# Altium footprint library adafruit.PCBLIB: 643 footprints (part 32 of 41)
Each footprint in its own frame and in the unit in brackets; x right, y up, seen from the top. Pads: shape width x height; smd on the part's side, far side on the other; paste and mask are expansions set on the pad; w line width, h text height; cw(c..) or ccw(c..) is an arc to the next point about the centre after c.
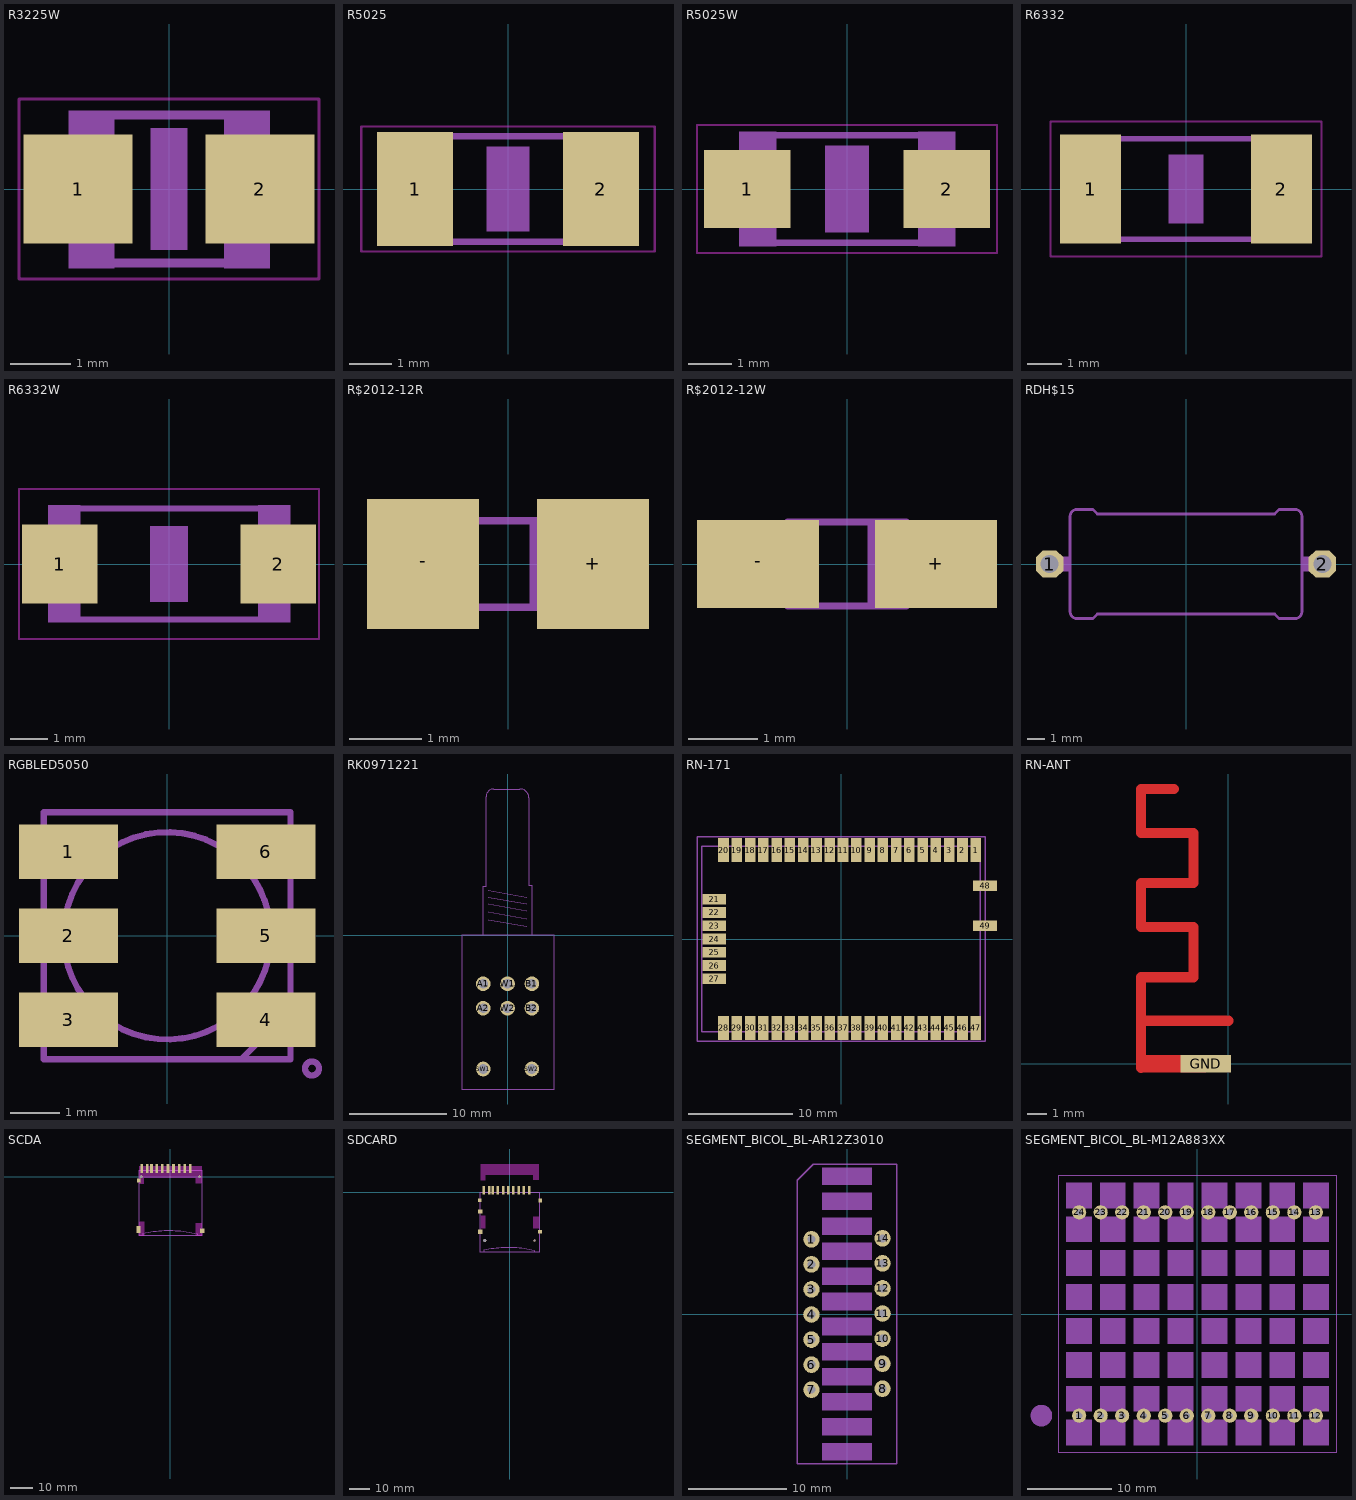
[diagram p31: the footprints below, top view; thin cyan lines are the x and y axes]

## R3225W [mil]
pads (2):
  rect 70.87x70.87 smd: 1(-59.02,0) 2(59.02,0)
Top keep-out:
  lines w2: -97.36,-58.39 97.36,-58.39 97.36,58.39 -97.36,58.39 -97.36,-58.39
tDocu:
  region: -65,-51.5 -65,50.86 -35.47,50.86 -35.47,-51.5
  region: 36,-51.5 36,50.86 65.53,50.86 65.53,-51.5
tPlace:
  lines w6: -35.94,-47.99 36.97,-47.99 ; -35.94,47.99 36.97,47.99
tGlue:
  region: -11.81,-39.37 -11.81,39.37 11.81,39.37 11.81,-39.37

## R5025 [mil]
pads (2):
  rect 70.87x106.3 smd: 1(-86.61,0) 2(86.61,0)
Top keep-out:
  lines w2: -136.73,-58.39 136.73,-58.39 136.73,58.39 -136.73,58.39 -136.73,-58.39
tDocu:
  region: -98,-52 -98,52.33 -64.54,52.33 -64.54,-52
  region: 65,-52 65,52.33 98.46,52.33 98.46,-52
  lines w6: -65.43,49.02 65.43,49.02 ; -64.45,-49.02 66.42,-49.02
tPlace:
  lines w6: -35.43,49.02 35.43,49.02 ; -34.45,-49.02 36.42,-49.02
tGlue:
  region: -19.69,-39.37 -19.69,39.37 19.69,39.37 19.69,-39.37

## R5025W [mm]
pads (2):
  rect 2x1.8 smd: 1(-2.311,0) 2(2.311,0)
Top keep-out:
  lines w0.051: -3.473,-1.483 3.473,-1.483 3.473,1.483 -3.473,1.483 -3.473,-1.483
tDocu:
  region: -2.489,-1.321 -2.489,1.329 -1.639,1.329 -1.639,-1.321
  region: 1.651,-1.321 1.651,1.329 2.501,1.329 2.501,-1.321
tPlace:
  lines w0.152: -1.662,1.245 1.662,1.245 ; -1.637,-1.245 1.687,-1.245
tGlue:
  region: -0.5,-1 -0.5,1 0.5,1 0.5,-1

## R6332 [mil]
pads (2):
  rect 70.87x125.98 smd: 1(-110.24,0) 2(110.24,0)
Top keep-out:
  lines w2: -156.42,-78.07 156.42,-78.07 156.42,78.07 -156.42,78.07 -156.42,-78.07
tDocu:
  region: -126,-61 -126,61.05 -92.54,61.05 -92.54,-61
  region: 93,-61 93,61.05 126.46,61.05 126.46,-61
  lines w6: -92.99,-57.99 93.98,-57.99 ; -92.99,57.99 93.98,57.99
tPlace:
  lines w6: -57.99,-57.99 58.98,-57.99 ; -57.99,57.99 58.98,57.99
tGlue:
  region: -19.69,-39.37 -19.69,39.37 19.69,39.37 19.69,-39.37

## R6332W [mm]
pads (2):
  rect 2x2.1 smd: 1(-2.896,0) 2(2.896,0)
Top keep-out:
  lines w0.051: -3.973,-1.983 3.973,-1.983 3.973,1.983 -3.973,1.983 -3.973,-1.983
tDocu:
  region: -3.2,-1.549 -3.2,1.551 -2.351,1.551 -2.351,-1.549
  region: 2.362,-1.549 2.362,1.551 3.212,1.551 3.212,-1.549
tPlace:
  lines w0.152: -2.362,-1.473 2.387,-1.473 ; -2.362,1.473 2.387,1.473
tGlue:
  region: -0.5,-1 -0.5,1 0.5,1 0.5,-1

## R$2012-12R [mm]
pads (2):
  rect 1.55x1.8 smd: +(1.175,0) -(-1.175,0)
tDocu:
  region: -1,-0.45 -1,0.45 -0.875,0.45 -0.875,-0.45
  region: 0.875,-0.45 0.875,0.45 1,0.45 1,-0.45
  region: 0.3,-0.625 0.3,0.625 0.5,0.625 0.5,-0.625
  lines w0.102: -0.85,-0.6 0.85,-0.6 0.85,0.6 -0.85,0.6 -0.85,-0.6

## R$2012-12W [mil]
pads (2):
  rect 68.9x49.61 smd: +(50.2,0) -(-50.2,0)
tDocu:
  region: -39.37,-17.72 -39.37,17.72 -34.45,17.72 -34.45,-17.72
  region: 34.45,-17.72 34.45,17.72 39.37,17.72 39.37,-17.72
  region: 11.81,-24.61 11.81,24.61 19.69,24.61 19.69,-24.61
  lines w4: -33.46,-23.62 33.46,-23.62 33.46,23.62 -33.46,23.62 -33.46,-23.62

## RDH$15 [mil]
pads (2):
  oct 60x60 / inner round 55.43 / far side oct 60x60 hole 40: 1(-300,0) 2(300,0)
tDocu:
  region: -266,-16 -266,16 -254,16 -254,-16
  region: 254,-16 254,16 266,16 266,-16
  lines w6: -255,-40 -255,40 ; 255,-40 255,40
  lines w32: -300,0 -270,0 ; 270,0 300,0
  text "RDH" at 180,-68 h77.5
tPlace:
  lines w6: -255,-40 -255,-105 ccw(c-240,-105) -240,-120 -205,-120 -195,-110 195,-110 205,-120 240,-120 ccw(c240,-105) 255,-105 255,-40 ; -255,40 -255,105 cw(c-240,105) -240,120 -205,120 -195,110 195,110 205,120 240,120 cw(c240,105) 255,105 255,40

## RGBLED5050 [mm]
pads (6):
  rect 2x1.1 smd: 1(-2,1.7) 2(-2,0) 3(-2,-1.7) 4(2,-1.7) 5(2,0) 6(2,1.7)
tPlace:
  circle w0.127: c2.934,-2.688 r0.141
  circle w0.127: c0,0 r2.1
  lines w0.127: 1.5,-2.5 2.5,-2.5 2.5,-1.5 ; 1.5,-2.5 -2.5,-2.5 -2.5,2.5 2.5,2.5 2.5,-1.5 ; 1.5,-2.5 2.5,-1.5

## RK0971221 [mm]
pads (8):
  round 1.508 hole 1: A1(-2.5,-5) A2(-2.5,-7.5) B1(2.5,-5) B2(2.5,-7.5) SW1(-2.5,-13.75) SW2(2.5,-13.75) W1(0,-5) W2(0,-7.5)
tPlace:
  lines w0.127: -2,1.6 2,0.9 ; -2,2.4 2,1.7 ; -2,3.2 2,2.5 ; -2,3.9 2,3.2 ; -2,4.6 2,3.9 ; -2.5,0 2.5,0 ; -2.5,0 -4.7,0 -4.7,-15.8 4.8,-15.8 4.8,0 2.5,0 ; -2.5,0 -2.5,5 -2.2,5 -2.2,14.219 cw(c-1.419,14.219) -1.419,15 1.278,15 cw(c1.278,14.078) 2.2,14.078 2.2,5.1 2.5,5.1 2.5,0

## RN-171 [mil]
pads (49):
  rect 40x90 smd: 1(507.5,335) 2(457.5,335) 3(407.5,335) 4(357.5,335) 5(307.5,335) 6(257.5,335) 7(207.5,335) 8(157.5,335) 9(107.5,335) 10(57.5,335) 11(7.5,335) 12(-42.5,335) 13(-92.5,335) 14(-142.5,335) 15(-192.5,335) 16(-242.5,335) 17(-292.5,335) 18(-342.5,335) 19(-392.5,335) 20(-442.5,335) 28(-442.5,-335) 29(-392.5,-335) 30(-342.5,-335) 31(-292.5,-335) 32(-242.5,-335) 33(-192.5,-335) 34(-142.5,-335) 35(-92.5,-335) 36(-42.5,-335) 37(7.5,-335) 38(57.5,-335) 39(107.5,-335) 40(157.5,-335) 41(207.5,-335) 42(257.5,-335) 43(307.5,-335) 44(357.5,-335) 45(407.5,-335) 46(457.5,-335) 47(507.5,-335)
  rect 90x40 smd: 21(-477.5,150) 22(-477.5,100) 23(-477.5,50) 24(-477.5,0) 25(-477.5,-50) 26(-477.5,-100) 27(-477.5,-150) 48(542.5,200) 49(542.5,50)
tPlace:
  lines w5: -542.5,-385 542.5,-385 542.5,385 -542.5,385 -542.5,-385 ; -525,-350 525,-350 525,350 -525,350 -525,-350

## RN-ANT [mil]
pads (2):
  rect 1x1 smd paste+0 mask+0: FEED(0,85)
  rect 100x35 smd paste+0 mask+0: GND(-45,0)
Top:
  lines w20: -173,-8 -173,85 ; -108,543 -173,543 -173,456 -69,456 -69,357 -173,357 -173,270 -69,270 -69,171 -173,171 -173,85 ; 0,85 -173,85
  lines w35: -165,0 -50,0

## SCDA [mm]
pads (15):
  rect 1.2x4 smd: 1(6.4,3.7) 2(3.9,3.7) 3(1.4,3.7) 4(-1.1,3.7) 5(-3.6,3.7) 6(-6.1,3.7) 7(-8.4,3.7) 8(-10.4,3.7) 9(8.9,3.7) 10(-12.8,3.7)
  rect 1.7x1.8 smd: 11(-14.1,-1.7)
  rect 1.7x3.1 smd: 12(-14.2,-23.5)
  rect 1.9x1.9 smd: 13(14.2,-24.1)
  round 1 hole 1 unplated: MH1(-13,0) MH2(13,0)
Top keep-out:
  region: -14,-26.3 -14,-20.2 -11.7,-20.2 -11.7,-26.3
  region: 11.3,-26.3 11.3,-20.8 14.1,-20.8 14.1,-26.3
  region: 14.1,-2.8 11.3,-2.8 11.3,-0.5 -11.8,-0.4 -11.8,-3.2 -14,-3.2 -14,4.7 14.1,4.7
tPlace:
  lines w0.127: -12.4,-26.3 12,-26.3 ; -12.4,-26.3 -14,-26.3 -14,2.8 14.1,2.8 14.1,-26.3 12,-26.3 ; -12.4,-26.3 -12.4,-25.5 cw(c-0.615,-76.23) 12,-25.7 12,-26.3

## SDCARD [mm]
pads (17):
  rect 1.2x4 smd: 1(6.8,0.89) 2(4.3,0.89) 3(1.8,0.89) 4(-0.7,0.89) 5(-3.1,0.89) 6(-5.7,0.89) 7(-8.1,0.89) 8(-9.8,0.89) 9(9.3,0.89) CD(-12.5,0.89)
  rect 2.032x2.032 smd: COM(-14.2,-9.3) WP(-14.2,-19)
  round 1.5 hole 1.5 unplated: MH1(-12,-23.31)
  round 1 hole 1 unplated: MH2(12,-23.31)
  rect 1.7x1.8 smd: MT1(-14.5,-3.91)
  rect 1.9x1.9 smd: MT2(14.7,-3.91) MT3(14.6,-19.01)
Top keep-out:
  region: -14,-17.41 -14,-11.31 -11.7,-11.31 -11.7,-17.41
  region: 11.3,-17.41 11.3,-11.91 14.1,-11.91 14.1,-17.41
  region: 14.1,6.09 11.3,6.09 11.3,8.39 -11.8,8.49 -11.8,5.69 -14,5.69 -14,13.59 14.1,13.59
tPlace:
  lines w0.127: -12.6,-28.81 11.8,-28.81 ; -12.6,-28.81 -14.2,-28.81 -14.2,-0.01 14.3,-0.01 14.3,-28.81 11.8,-28.81 ; -12.6,-28.81 -12.6,-28.01 cw(c-0.815,-78.74) 11.8,-28.21 11.8,-28.81

## SEGMENT_BICOL_BL-AR12Z3010 [mil]
pads (14):
  round 66 hole 31.5: 1(-141.73,298.03) 2(-141.73,198.03) 3(-141.73,98.03) 4(-141.73,-1.97) 5(-141.73,-101.97) 6(-141.73,-201.97) 7(-141.73,-301.97) 8(141.73,-298.03) 9(141.73,-198.03) 10(141.73,-98.03) 11(141.73,1.97) 12(141.73,101.97) 13(141.73,201.97) 14(141.73,301.97)
tDocu:
  region: -98.43,15.75 -98.43,84.25 98.43,84.25 98.43,15.75
  region: -98.43,115.75 -98.43,184.25 98.43,184.25 98.43,115.75
  region: -98.43,215.75 -98.43,284.25 98.43,284.25 98.43,215.75
  region: -98.43,315.75 -98.43,384.25 98.43,384.25 98.43,315.75
  region: -98.43,415.75 -98.43,484.25 98.43,484.25 98.43,415.75
  region: -98.43,515.75 -98.43,584.25 98.43,584.25 98.43,515.75
  region: -98.43,-84.25 -98.43,-15.75 98.43,-15.75 98.43,-84.25
  region: -98.43,-184.25 -98.43,-115.75 98.43,-115.75 98.43,-184.25
  region: -98.43,-284.25 -98.43,-215.75 98.43,-215.75 98.43,-284.25
  region: -98.43,-384.25 -98.43,-315.75 98.43,-315.75 98.43,-384.25
  region: -98.43,-484.25 -98.43,-415.75 98.43,-415.75 98.43,-484.25
  region: -98.43,-584.25 -98.43,-515.75 98.43,-515.75 98.43,-584.25
  lines w5: -198.82,-598.43 198.82,-598.43 198.82,598.43 -134.06,598.43 -198.82,534.45 -198.82,-598.43
  text "A" at 225,525 h77.5
  text "B" at 225,425 h77.5
  text "C" at 225,325 h77.5
  text "D" at 225,225 h77.5
  text "E" at 225,125 h77.5
  text "F" at 225,25 h77.5
  text "G" at 225,-75 h77.5
  text "H" at 225,-175 h77.5
  text "I" at 225,-275 h77.5
  text "J" at 225,-375 h77.5
  text "K" at 225,-475 h77.5
  text "L" at 225,-575 h77.5
tPlace:
  lines w5: -198.82,-598.43 198.82,-598.43 198.82,598.43 -134.06,598.43 -198.82,534.45 -198.82,-598.43

## SEGMENT_BICOL_BL-M12A883XX [mil]
pads (24):
  round 66 hole 31.5: 1(-550,-472.44) 2(-450,-472.44) 3(-350,-472.44) 4(-250,-472.44) 5(-150,-472.44) 6(-50,-472.44) 7(50,-472.44) 8(150,-472.44) 9(250,-472.44) 10(350,-472.44) 11(450,-472.44) 12(550,-472.44) 13(550,472.44) 14(450,472.44) 15(350,472.44) 16(250,472.44) 17(150,472.44) 18(50,472.44) 19(-50,472.44) 20(-150,472.44) 21(-250,472.44) 22(-350,472.44) 23(-450,472.44) 24(-550,472.44)
tDocu:
  drawing of 68 lines, arcs and shapes, not listed
tPlace:
  circle w50: c-725.59,-472.44 r25
  lines w5: -643.7,-643.7 643.7,-643.7 643.7,643.7 -643.7,643.7 -643.7,-643.7